# Altium integrated library Micron Memory Dynamic RAM.IntLib: 40 symbols (part 3 of 3)
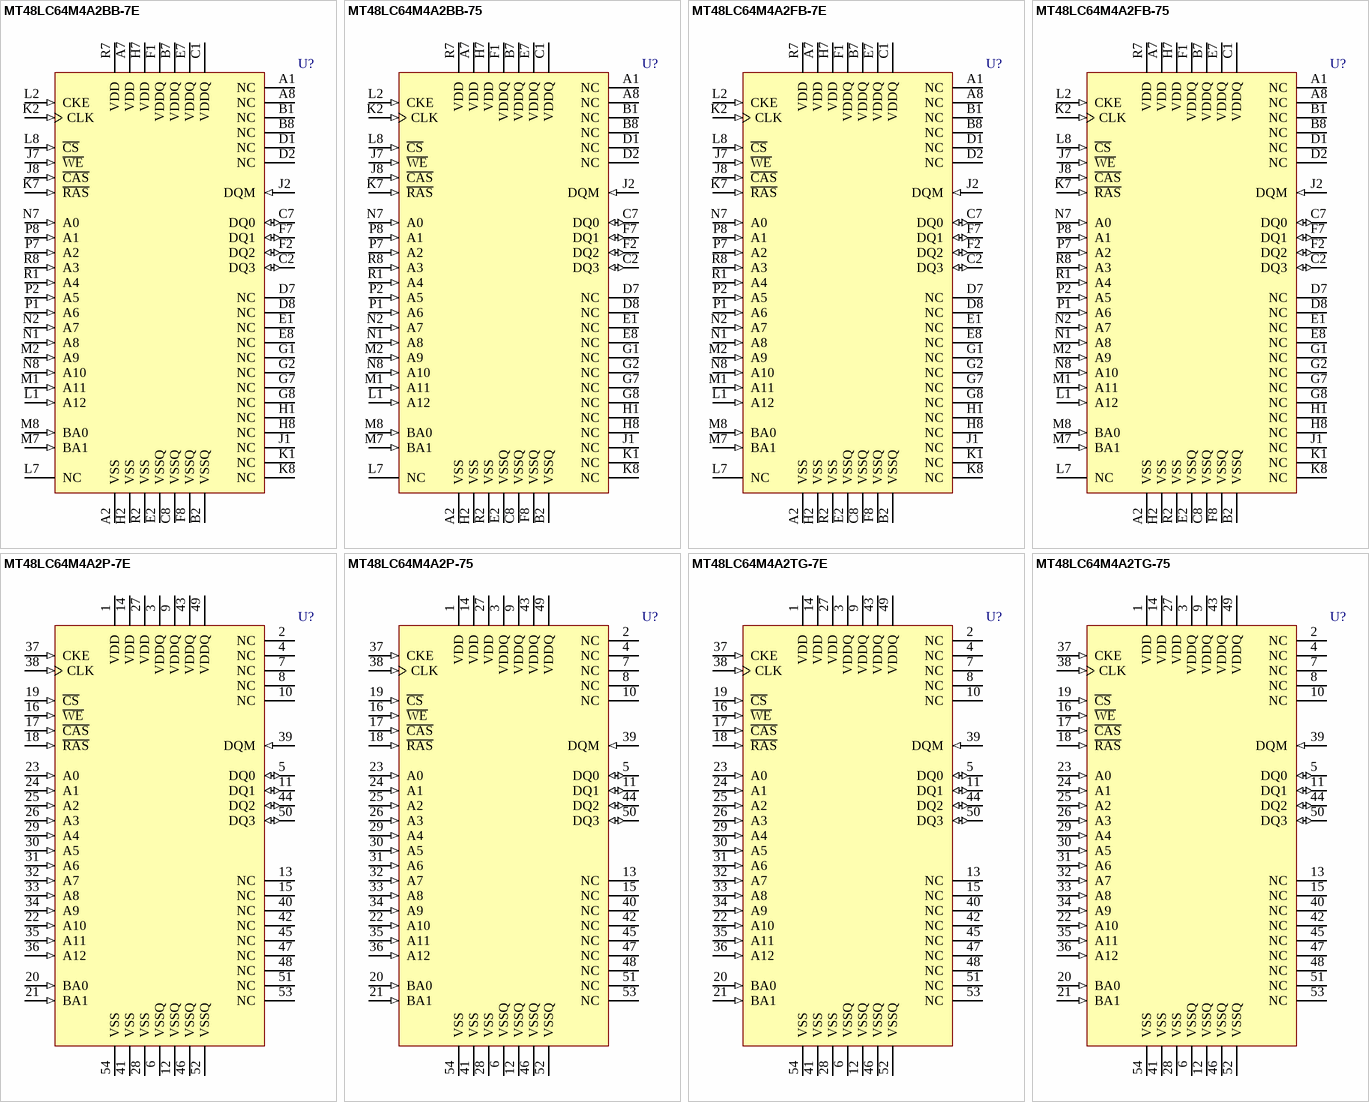
[diagram p6: symbols MT48LC64M4A2BB-7E to MT48LC64M4A2TG-75]

## MT48LC64M4A2P-75
designator U?
256Mb Synchronous High-Speed CMOS DRAM, 64Mb x 4Bit x 4 Banks, 54-Pin TSOP Pb-free, Commercial; CycleTime: 7.5ns @ CL = 3 (PC133); RowAddress: 8K (A0-A12); ColumnAddress: 2K (A0-A9, A11); Published: 11-Oct-2004; LatestRevisionDate: 13-Apr-2006; LatestRevisionNote: IPC-7351 Footprint Added.; DatasheetVersion: RevL, Oct-2007; PackageVersion: Sep-2003; PackageReference: TSOP2-54; Publisher: Altium Limited; PackageDescription: 54-Pin Plastic Small Outline Package 0.8 mm Pitch; Code_JEDEC: MS-024-FA; ComponentLink1Description: Manufacturer Link; ComponentLink1URL: http://www.micron.com; ComponentLink2Description: Datasheet; ComponentLink2URL: http://download.micron.com/pdf/datasheets/dram/sdram/256MSDRAM.pdf
footprint TSOP2-54_N (SOP, 54-Leads, Body 22.2x10.16mm, Pitch 0.8mm, IPC Medium Density)
footprint TSOP2-54_L (SOP, 54-Leads, Body 22.2x10.16mm, Pitch 0.8mm, IPC High Density)
footprint TSOP2-54_M (SOP, 54-Leads, Body 22.2x10.16mm, Pitch 0.8mm, IPC Low Density)
pins: 1 VDD (power) "Power Supply", 2 NC "No Connect", 3 VDDQ (power) "DQ Power", 4 NC "No Connect", 5 DQ0 (io) "Data Input/Output 0", 6 VSSQ (power) "DQ Ground", 7 NC "No Connect", 8 NC "No Connect", 9 VDDQ (power) "DQ Power", 10 NC "No Connect", 11 DQ1 (io) "Data Input/Output 1", 12 VSSQ (power) "DQ Ground", 13 NC "No Connect", 14 VDD (power) "Power Supply", 15 NC "No Connect", 16 ~{WE} (in) "Command Input", 17 ~{CAS} (in) "Command Input", 18 ~{RAS} (in) "Command Input", 19 ~{CS} (in) "Chip Select", 20 BA0 (in) "Bank Address Input 0", 21 BA1 (in) "Bank Address Input 1", 22 A10 (in) "Address Input 10", 23 A0 (in) "Address Input 0", 24 A1 (in) "Address Input 1", 25 A2 (in) "Address Input 2", 26 A3 (in) "Address Input 3", 27 VDD (power) "Power Supply", 28 VSS (power) "Ground", 29 A4 (in) "Address Input 4", 30 A5 (in) "Address Input 5", 31 A6 (in) "Address Input 6", 32 A7 (in) "Address Input 7", 33 A8 (in) "Address Input 8", 34 A9 (in) "Address Input 9", 35 A11 (in) "Address Input 11", 36 A12 (in) "Address Input 12", 37 CKE (in) "Clock Enable", 38 CLK (in) "Clock", 39 DQM (in) "Input/Output Mask", 40 NC "No Connect", 41 VSS (power) "Ground", 42 NC "No Connect", 43 VDDQ (power) "DQ Power", 44 DQ2 (io) "Data Input/Output 2", 45 NC "No Connect", 46 VSSQ (power) "DQ Ground", 47 NC "No Connect", 48 NC "No Connect", 49 VDDQ (power) "DQ Power", 50 DQ3 (io) "Data Input/Output 3", 51 NC "No Connect", 52 VSSQ (power) "DQ Ground", 53 NC "No Connect", 54 VSS (power) "Ground"

## MT48LC64M4A2TG-7E
designator U?
256Mb Synchronous High-Speed CMOS DRAM, 64Mb x 4Bit x 4 Banks, 54-Pin TSOP, Commercial; CycleTime: 7.5ns @ CL = 2 (PC133); RowAddress: 8K (A0-A12); ColumnAddress: 2K (A0-A9, A11); Published: 11-Oct-2004; LatestRevisionDate: 13-Apr-2006; LatestRevisionNote: IPC-7351 Footprint Added.; DatasheetVersion: RevL, Oct-2007; PackageVersion: Sep-2003; PackageReference: TSOP2-54; Publisher: Altium Limited; PackageDescription: 54-Pin Plastic Small Outline Package 0.8 mm Pitch; Code_JEDEC: MS-024-FA; ComponentLink1Description: Manufacturer Link; ComponentLink1URL: http://www.micron.com; ComponentLink2Description: Datasheet; ComponentLink2URL: http://download.micron.com/pdf/datasheets/dram/sdram/256MSDRAM.pdf
footprint TSOP2-54_N (SOP, 54-Leads, Body 22.2x10.16mm, Pitch 0.8mm, IPC Medium Density)
footprint TSOP2-54_L (SOP, 54-Leads, Body 22.2x10.16mm, Pitch 0.8mm, IPC High Density)
footprint TSOP2-54_M (SOP, 54-Leads, Body 22.2x10.16mm, Pitch 0.8mm, IPC Low Density)
pins: 1 VDD (power) "Power Supply", 2 NC "No Connect", 3 VDDQ (power) "DQ Power", 4 NC "No Connect", 5 DQ0 (io) "Data Input/Output 0", 6 VSSQ (power) "DQ Ground", 7 NC "No Connect", 8 NC "No Connect", 9 VDDQ (power) "DQ Power", 10 NC "No Connect", 11 DQ1 (io) "Data Input/Output 1", 12 VSSQ (power) "DQ Ground", 13 NC "No Connect", 14 VDD (power) "Power Supply", 15 NC "No Connect", 16 ~{WE} (in) "Command Input", 17 ~{CAS} (in) "Command Input", 18 ~{RAS} (in) "Command Input", 19 ~{CS} (in) "Chip Select", 20 BA0 (in) "Bank Address Input 0", 21 BA1 (in) "Bank Address Input 1", 22 A10 (in) "Address Input 10", 23 A0 (in) "Address Input 0", 24 A1 (in) "Address Input 1", 25 A2 (in) "Address Input 2", 26 A3 (in) "Address Input 3", 27 VDD (power) "Power Supply", 28 VSS (power) "Ground", 29 A4 (in) "Address Input 4", 30 A5 (in) "Address Input 5", 31 A6 (in) "Address Input 6", 32 A7 (in) "Address Input 7", 33 A8 (in) "Address Input 8", 34 A9 (in) "Address Input 9", 35 A11 (in) "Address Input 11", 36 A12 (in) "Address Input 12", 37 CKE (in) "Clock Enable", 38 CLK (in) "Clock", 39 DQM (in) "Input/Output Mask", 40 NC "No Connect", 41 VSS (power) "Ground", 42 NC "No Connect", 43 VDDQ (power) "DQ Power", 44 DQ2 (io) "Data Input/Output 2", 45 NC "No Connect", 46 VSSQ (power) "DQ Ground", 47 NC "No Connect", 48 NC "No Connect", 49 VDDQ (power) "DQ Power", 50 DQ3 (io) "Data Input/Output 3", 51 NC "No Connect", 52 VSSQ (power) "DQ Ground", 53 NC "No Connect", 54 VSS (power) "Ground"

## MT48LC64M4A2TG-75
designator U?
256Mb Synchronous High-Speed CMOS DRAM, 64Mb x 4Bit x 4 Banks, 54-Pin TSOP, Commercial; CycleTime: 7.5ns @ CL = 3 (PC133); RowAddress: 8K (A0-A12); ColumnAddress: 2K (A0-A9, A11); Published: 11-Oct-2004; LatestRevisionDate: 13-Apr-2006; LatestRevisionNote: IPC-7351 Footprint Added.; DatasheetVersion: RevL, Oct-2007; PackageVersion: Sep-2003; PackageReference: TSOP2-54; Publisher: Altium Limited; PackageDescription: 54-Pin Plastic Small Outline Package 0.8 mm Pitch; Code_JEDEC: MS-024-FA; ComponentLink1Description: Manufacturer Link; ComponentLink1URL: http://www.micron.com; ComponentLink2Description: Datasheet; ComponentLink2URL: http://download.micron.com/pdf/datasheets/dram/sdram/256MSDRAM.pdf
footprint TSOP2-54_N (SOP, 54-Leads, Body 22.2x10.16mm, Pitch 0.8mm, IPC Medium Density)
footprint TSOP2-54_L (SOP, 54-Leads, Body 22.2x10.16mm, Pitch 0.8mm, IPC High Density)
footprint TSOP2-54_M (SOP, 54-Leads, Body 22.2x10.16mm, Pitch 0.8mm, IPC Low Density)
pins: 1 VDD (power) "Power Supply", 2 NC "No Connect", 3 VDDQ (power) "DQ Power", 4 NC "No Connect", 5 DQ0 (io) "Data Input/Output 0", 6 VSSQ (power) "DQ Ground", 7 NC "No Connect", 8 NC "No Connect", 9 VDDQ (power) "DQ Power", 10 NC "No Connect", 11 DQ1 (io) "Data Input/Output 1", 12 VSSQ (power) "DQ Ground", 13 NC "No Connect", 14 VDD (power) "Power Supply", 15 NC "No Connect", 16 ~{WE} (in) "Command Input", 17 ~{CAS} (in) "Command Input", 18 ~{RAS} (in) "Command Input", 19 ~{CS} (in) "Chip Select", 20 BA0 (in) "Bank Address Input 0", 21 BA1 (in) "Bank Address Input 1", 22 A10 (in) "Address Input 10", 23 A0 (in) "Address Input 0", 24 A1 (in) "Address Input 1", 25 A2 (in) "Address Input 2", 26 A3 (in) "Address Input 3", 27 VDD (power) "Power Supply", 28 VSS (power) "Ground", 29 A4 (in) "Address Input 4", 30 A5 (in) "Address Input 5", 31 A6 (in) "Address Input 6", 32 A7 (in) "Address Input 7", 33 A8 (in) "Address Input 8", 34 A9 (in) "Address Input 9", 35 A11 (in) "Address Input 11", 36 A12 (in) "Address Input 12", 37 CKE (in) "Clock Enable", 38 CLK (in) "Clock", 39 DQM (in) "Input/Output Mask", 40 NC "No Connect", 41 VSS (power) "Ground", 42 NC "No Connect", 43 VDDQ (power) "DQ Power", 44 DQ2 (io) "Data Input/Output 2", 45 NC "No Connect", 46 VSSQ (power) "DQ Ground", 47 NC "No Connect", 48 NC "No Connect", 49 VDDQ (power) "DQ Power", 50 DQ3 (io) "Data Input/Output 3", 51 NC "No Connect", 52 VSSQ (power) "DQ Ground", 53 NC "No Connect", 54 VSS (power) "Ground"